# Altium schematic symbol library ESP32.SCHLIB: 14 symbols
Pins are listed as number, name and electrical type; pins without a type are passive.

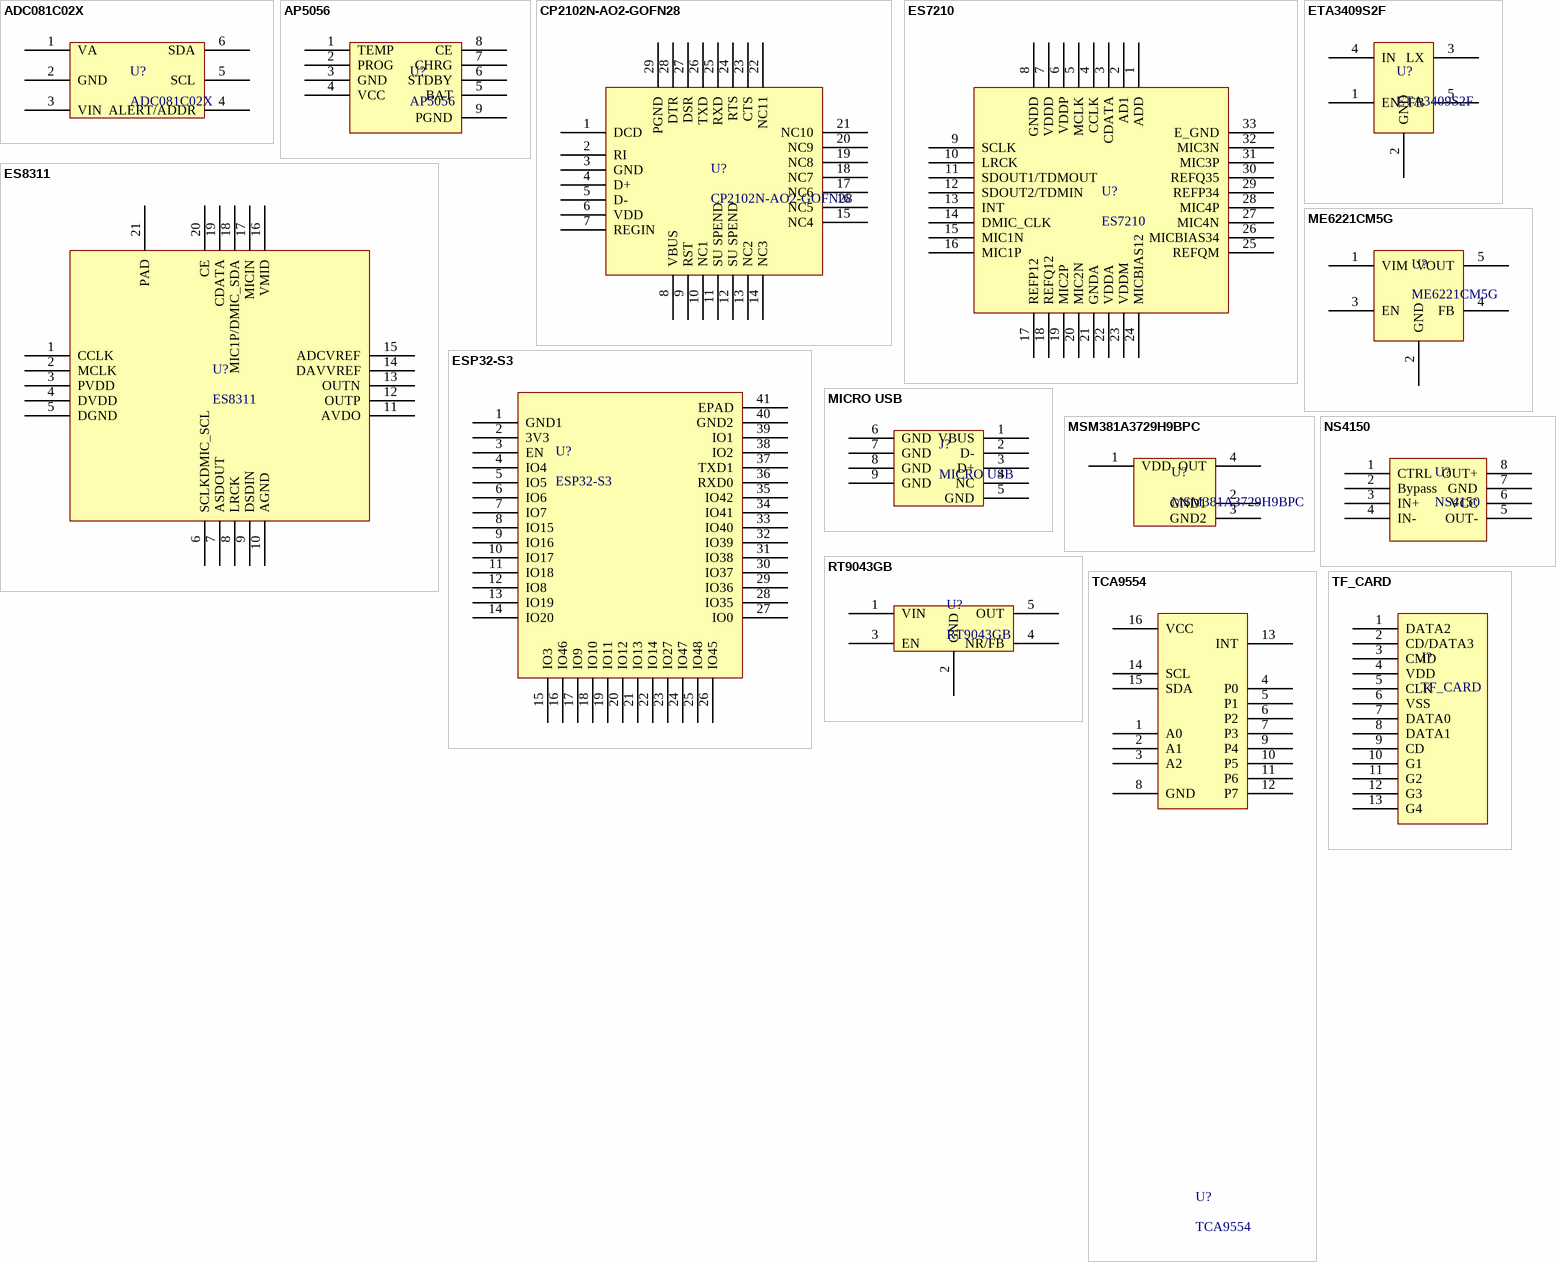
[diagram p0: symbols ADC081C02X to TF_CARD]

## ADC081C02X
designator U?
pins: 1 VA, 2 GND, 3 VIN, 4 ALERT/ADDR, 5 SCL, 6 SDA

## AP5056
designator U?
pins: 1 TEMP, 2 PROG, 3 GND, 4 VCC, 5 BAT, 6 STDBY, 7 CHRG, 8 CE, 9 PGND

## CP2102N-AO2-GOFN28
designator U?
pins: 1 DCD, 2 RI, 3 GND, 4 D+, 5 D-, 6 VDD, 7 REGIN, 8 VBUS, 9 RST, 10 NC1, 11 SU SPEND, 12 SU SPEND, 13 NC2, 14 NC3, 15 NC4, 16 NC5, 17 NC6, 18 NC7, 19 NC8, 20 NC9, 21 NC10, 22 NC11, 23 CTS, 24 RTS, 25 RXD, 26 TXD, 27 DSR, 28 DTR, 29 PGND

## ES7210
designator U?
pins: 1 ADD, 2 AD1, 3 CDATA, 4 CCLK, 5 MCLK, 6 VDDP, 7 VDDD, 8 GNDD, 9 SCLK, 10 LRCK, 11 SDOUT1/TDMOUT, 12 SDOUT2/TDMIN, 13 INT, 14 DMIC_CLK, 15 MIC1N, 16 MIC1P, 17 REFP12, 18 REFQ12, 19 MIC2P, 20 MIC2N, 21 GNDA, 22 VDDA, 23 VDDM, 24 MICBIAS12, 25 REFQM, 26 MICBIAS34, 27 MIC4N, 28 MIC4P, 29 REFP34, 30 REFQ35, 31 MIC3P, 32 MIC3N, 33 E_GND

## ES8311
designator U?
pins: 1 CCLK, 2 MCLK, 3 PVDD, 4 DVDD, 5 DGND, 6 SCLKDMIC_SCL, 7 ASDOUT, 8 LRCK, 9 DSDIN, 10 AGND, 11 AVDO, 12 OUTP, 13 OUTN, 14 DAVVREF, 15 ADCVREF, 16 VMID, 17 MICIN, 18 MIC1P/DMIC_SDA, 19 CDATA, 20 CE, 21 PAD

## ESP32-S3
designator U?
pins: 1 GND1, 2 3V3, 3 EN, 4 IO4, 5 IO5, 6 IO6, 7 IO7, 8 IO15, 9 IO16, 10 IO17, 11 IO18, 12 IO8, 13 IO19, 14 IO20, 15 IO3, 16 IO46, 17 IO9, 18 IO10, 19 IO11, 20 IO12, 21 IO13, 22 IO14, 23 IO27, 24 IO47, 25 IO48, 26 IO45, 27 IO0, 28 IO35, 29 IO36, 30 IO37, 31 IO38, 32 IO39, 33 IO40, 34 IO41, 35 IO42, 36 RXD0, 37 TXD1, 38 IO2, 39 IO1, 40 GND2, 41 EPAD

## ETA3409S2F
designator U?
pins: 1 EN, 2 GND, 3 LX, 4 IN, 5 FB

## ME6221CM5G
designator U?
pins: 1 VIM, 2 GND, 3 EN, 4 FB, 5 VOUT

## MICRO USB
designator J?
pins: 1 VBUS, 2 D-, 3 D+, 4 NC, 5 GND, 6 GND, 7 GND, 8 GND, 9 GND

## MSM381A3729H9BPC
designator U?
pins: 1 VDD, 2 GND1, 3 GND2, 4 OUT

## NS4150
designator U?
pins: 1 CTRL, 2 Bypass, 3 IN+, 4 IN-, 5 OUT-, 6 VCC, 7 GND, 8 OUT+

## RT9043GB
designator U?
pins: 1 VIN, 2 GND, 3 EN, 4 NR/FB, 5 OUT

## TCA9554
designator U?
pins: 1 A0, 2 A1, 3 A2, 4 P0, 5 P1, 6 P2, 7 P3, 8 GND, 9 P4, 10 P5, 11 P6, 12 P7, 13 INT, 14 SCL, 15 SDA, 16 VCC

## TF_CARD
designator J?
pins: 1 DATA2, 2 CD/DATA3, 3 CMD, 4 VDD, 5 CLK, 6 VSS, 7 DATA0, 8 DATA1, 9 CD, 10 G1, 11 G2, 12 G3, 13 G4